# Altium integrated library TI Amplifiers and Linear Operational Amplifier Precision Amplifier Part Two.IntLib: 2300 symbols (part 28 of 81)
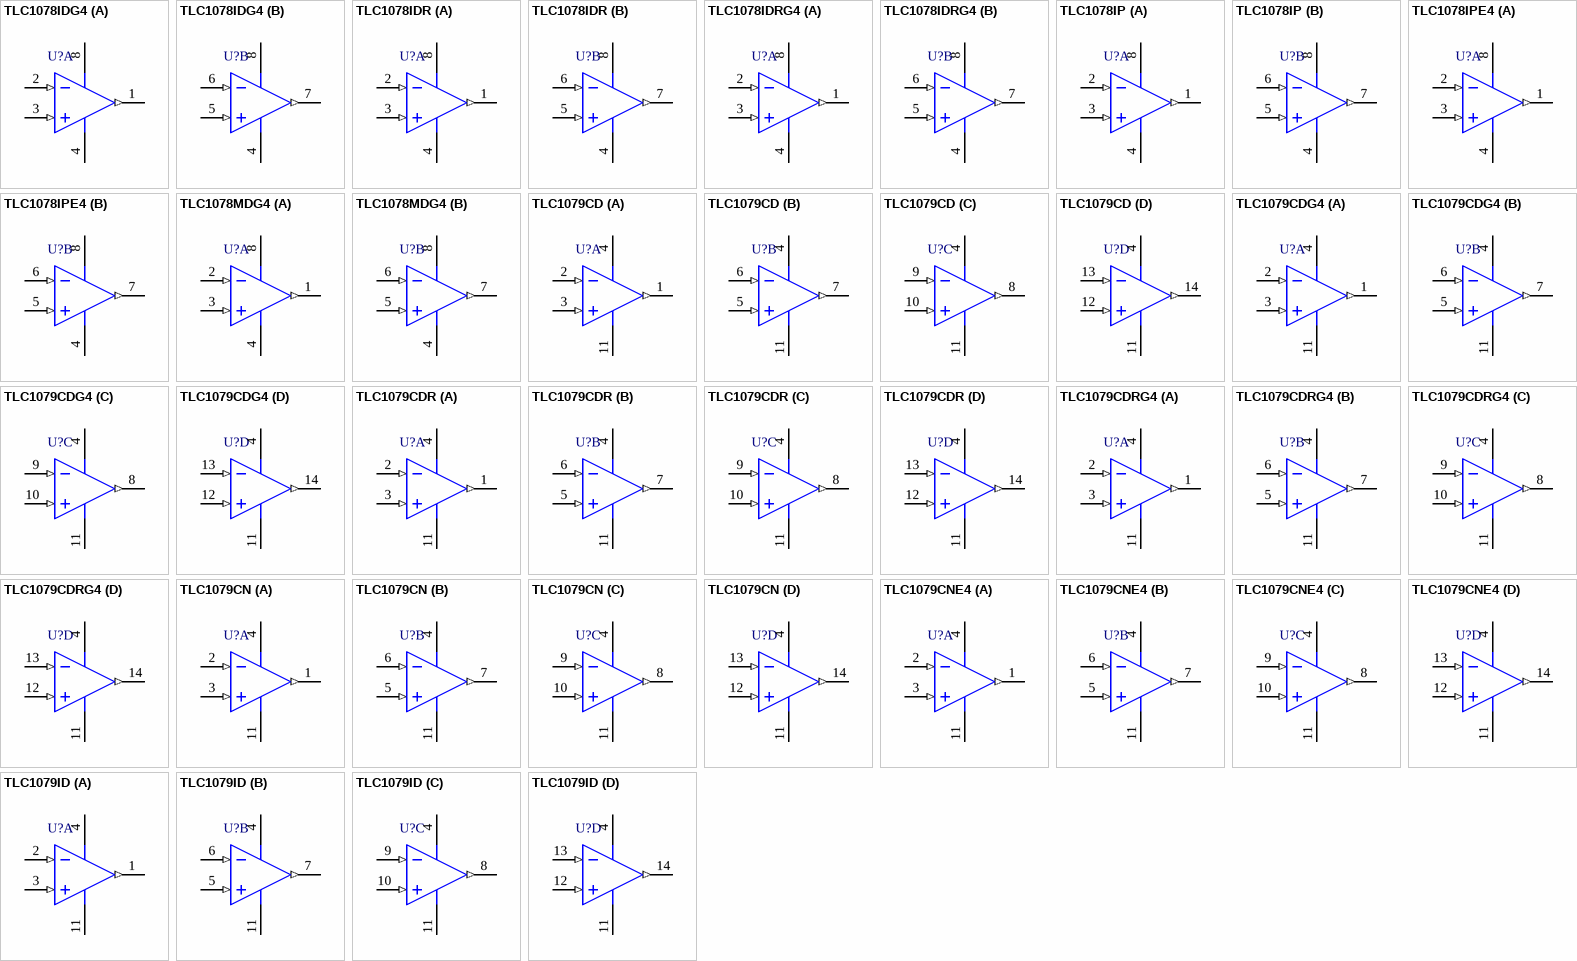
[diagram p163: symbols TLC1078IDG4 to TLC1079ID]

## TLC1078MDG4
designator U?
Dual Micropower Precision Low-Voltage Operational Amplifier, 4 to 16 V, -55 to 125 degC, 8-pin SOIC (D8), Green (RoHS & no Sb/Br); Manufacturer: Texas Instruments; PartNumber: TLC1078MDG4; CMRR(Min)(dB): 70; GBW(Typ)(MHz): 0.085; IIB(Max)(pA): 60; Iq per channel(Max)(mA): 0.017; Number of Channels: 2; Offset Drift(Typ)(uV/C): 1.4; Packing: SMALL T&R; Rating: Catalog; Slew Rate(Typ)(V/us): 32; Sub Family: Low Offset Voltage Amplifier (<=500uV), Low Power Amp (<=500uA), Low Supply Voltage Amplifier (<=2.7V), Precision Amplifier; Total Supply Voltage(Max)(+5V is 5, +/-5V is 10): 16; Total Supply Voltage(Min)(+5V is 5, +/-5V is 10): 4; Vio (25C)(Max)(mV): 0.45; DatasheetVersion: SLOS179A; PackageVersion: 4040047-3/M, 06/2011; PackageReference: D8; PackageDescription: 8-Pin Plastic Small Outline, Body 4.9 x 3.9 mm, Pitch 1.27 mm; Supplier 1: Digi-Key; Supplier Part Number 1: TLC1078MDG4-ND; Supplier 2: Mouser; Supplier Part Number 2: 595-TLC1078MDG4; Eco-Plan: Green (RoHS & no Sb/Br); Mounting Technology: Surface Mount; Code_JEDEC: MS-012; ComponentLink1Description: Manufacturer URL; ComponentLink1URL: http://www.ti.com/; ComponentLink2Description: Datasheet; ComponentLink2URL: http://www.ti.com/lit/ds/symlink/tlc1078.pdf; ComponentLink3Description: Package Specification; ComponentLink3URL: http://www.ti.com/litv/pdf/msoi002j
footprint TI-D8_N (SOIC, 8-Leads, Body 4.9x3.9mm, Pitch 1.27mm, IPC Medium Density)
footprint TI-D8_L (SOIC, 8-Leads, Body 4.9x3.9mm, Pitch 1.27mm, IPC High Density)
footprint TI-D8_M (SOIC, 8-Leads, Body 4.9x3.9mm, Pitch 1.27mm, IPC Low Density)
pins on every part: 4 GND (power), 8 VDD (power)
part A pins: 1 OUT1 (out), 2 IN1- (in), 3 IN1+ (in)
part B pins: 5 IN2+ (in), 6 IN2- (in), 7 OUT2 (out)

## TLC1079CD
designator U?
Quad Micropower Precision Low-Voltage Operational Amplifier, 1.4 to 16 V, 0 to 70 degC, 14-pin SOIC (D14), Green (RoHS & no Sb/Br); Manufacturer: Texas Instruments; PartNumber: TLC1079CD; CMRR(Min)(dB): 70; GBW(Typ)(MHz): 0.085; IIB(Max)(pA): 60; Iq per channel(Max)(mA): 0.017; Number of Channels: 4; Offset Drift(Typ)(uV/C): 1.1; Packing: TUBE; Rating: Catalog; Slew Rate(Typ)(V/us): 32; Sub Family: Low Power Amp (<=500uA), Low Supply Voltage Amplifier (<=2.7V), Precision Amplifier; Total Supply Voltage(Max)(+5V is 5, +/-5V is 10): 16; Total Supply Voltage(Min)(+5V is 5, +/-5V is 10): 1.4; Vio (25C)(Max)(mV): 0.85; DatasheetVersion: SLOS179A; PackageVersion: 4040047-5/M, 06/2011; PackageReference: D14; PackageDescription: 14-Pin Plastic Small Outline, Body 8.65 x 3.9 mm, Pitch 1.27 mm; Supplier 1: Digi-Key; Supplier Part Number 1: 296-10235-5-ND; Supplier 2: Farnell; Supplier Part Number 2: 1459737; Supplier 3: Newark; Supplier Part Number 3: 90B1096; Supplier 4: Mouser; Supplier Part Number 4: 595-TLC1079CD; Eco-Plan: Green (RoHS & no Sb/Br); Mounting Technology: Surface Mount; Code_JEDEC: MS-012; ComponentLink1Description: Manufacturer URL; ComponentLink1URL: http://www.ti.com/; ComponentLink2Description: Datasheet; ComponentLink2URL: http://www.ti.com/lit/ds/symlink/tlc1079.pdf; ComponentLink3Description: Package Specification; ComponentLink3URL: http://www.ti.com/lit/ml/mpds177g/mpds177g.pdf
footprint TI-D14_N (SOIC, 14-Leads, Body 8.65x3.9mm, Pitch 1.27mm, IPC Medium Density)
footprint TI-D14_L (SOIC, 14-Leads, Body 8.65x3.9mm, Pitch 1.27mm, IPC High Density)
footprint TI-D14_M (SOIC, 14-Leads, Body 8.65x3.9mm, Pitch 1.27mm, IPC Low Density)
pins on every part: 4 VDD (power), 11 GND (power)
part A pins: 1 OUT1 (out), 2 IN1- (in), 3 IN1+ (in)
part B pins: 5 IN2+ (in), 6 IN2- (in), 7 OUT2 (out)
part C pins: 8 OUT3 (out), 9 IN3- (in), 10 IN3+ (in)
part D pins: 12 IN4+ (in), 13 IN4- (in), 14 OUT4 (out)

## TLC1079CDG4
designator U?
Quad Micropower Precision Low-Voltage Operational Amplifier, 1.4 to 16 V, 0 to 70 degC, 14-pin SOIC (D14), Green (RoHS & no Sb/Br); Manufacturer: Texas Instruments; PartNumber: TLC1079CDG4; CMRR(Min)(dB): 70; GBW(Typ)(MHz): 0.085; IIB(Max)(pA): 60; Iq per channel(Max)(mA): 0.017; Number of Channels: 4; Offset Drift(Typ)(uV/C): 1.1; Packing: TUBE; Rating: Catalog; Slew Rate(Typ)(V/us): 32; Sub Family: Low Power Amp (<=500uA), Low Supply Voltage Amplifier (<=2.7V), Precision Amplifier; Total Supply Voltage(Max)(+5V is 5, +/-5V is 10): 16; Total Supply Voltage(Min)(+5V is 5, +/-5V is 10): 1.4; Vio (25C)(Max)(mV): 0.85; DatasheetVersion: SLOS179A; PackageVersion: 4040047-5/M, 06/2011; PackageReference: D14; PackageDescription: 14-Pin Plastic Small Outline, Body 8.65 x 3.9 mm, Pitch 1.27 mm; Supplier 1: Digi-Key; Supplier Part Number 1: TLC1079CDG4-ND; Supplier 2: Newark; Supplier Part Number 2: 28M7749; Supplier 3: Mouser; Supplier Part Number 3: 595-TLC1079CDG4; Eco-Plan: Green (RoHS & no Sb/Br); Mounting Technology: Surface Mount; Code_JEDEC: MS-012; ComponentLink1Description: Manufacturer URL; ComponentLink1URL: http://www.ti.com/; ComponentLink2Description: Datasheet; ComponentLink2URL: http://www.ti.com/lit/ds/symlink/tlc1079.pdf; ComponentLink3Description: Package Specification; ComponentLink3URL: http://www.ti.com/lit/ml/mpds177g/mpds177g.pdf
footprint TI-D14_N (SOIC, 14-Leads, Body 8.65x3.9mm, Pitch 1.27mm, IPC Medium Density)
footprint TI-D14_L (SOIC, 14-Leads, Body 8.65x3.9mm, Pitch 1.27mm, IPC High Density)
footprint TI-D14_M (SOIC, 14-Leads, Body 8.65x3.9mm, Pitch 1.27mm, IPC Low Density)
pins on every part: 4 VDD (power), 11 GND (power)
part A pins: 1 OUT1 (out), 2 IN1- (in), 3 IN1+ (in)
part B pins: 5 IN2+ (in), 6 IN2- (in), 7 OUT2 (out)
part C pins: 8 OUT3 (out), 9 IN3- (in), 10 IN3+ (in)
part D pins: 12 IN4+ (in), 13 IN4- (in), 14 OUT4 (out)

## TLC1079CDR
designator U?
Quad Micropower Precision Low-Voltage Operational Amplifier, 1.4 to 16 V, 0 to 70 degC, 14-pin SOIC (D14), Green (RoHS & no Sb/Br); Manufacturer: Texas Instruments; PartNumber: TLC1079CDR; CMRR(Min)(dB): 70; GBW(Typ)(MHz): 0.085; IIB(Max)(pA): 60; Iq per channel(Max)(mA): 0.017; Number of Channels: 4; Offset Drift(Typ)(uV/C): 1.1; Packing: LARGE T&R; Rating: Catalog; Slew Rate(Typ)(V/us): 32; Sub Family: Low Power Amp (<=500uA), Low Supply Voltage Amplifier (<=2.7V), Precision Amplifier; Total Supply Voltage(Max)(+5V is 5, +/-5V is 10): 16; Total Supply Voltage(Min)(+5V is 5, +/-5V is 10): 1.4; Vio (25C)(Max)(mV): 0.85; DatasheetVersion: SLOS179A; PackageVersion: 4040047-5/M, 06/2011; PackageReference: D14; PackageDescription: 14-Pin Plastic Small Outline, Body 8.65 x 3.9 mm, Pitch 1.27 mm; Supplier 1: Digi-Key; Supplier Part Number 1: TLC1079CDR-ND; Supplier 2: Mouser; Supplier Part Number 2: 595-TLC1079CDR; Eco-Plan: Green (RoHS & no Sb/Br); Mounting Technology: Surface Mount; Code_JEDEC: MS-012; ComponentLink1Description: Manufacturer URL; ComponentLink1URL: http://www.ti.com/; ComponentLink2Description: Datasheet; ComponentLink2URL: http://www.ti.com/lit/ds/symlink/tlc1079.pdf; ComponentLink3Description: Package Specification; ComponentLink3URL: http://www.ti.com/lit/ml/mpds177g/mpds177g.pdf
footprint TI-D14_N (SOIC, 14-Leads, Body 8.65x3.9mm, Pitch 1.27mm, IPC Medium Density)
footprint TI-D14_L (SOIC, 14-Leads, Body 8.65x3.9mm, Pitch 1.27mm, IPC High Density)
footprint TI-D14_M (SOIC, 14-Leads, Body 8.65x3.9mm, Pitch 1.27mm, IPC Low Density)
pins on every part: 4 VDD (power), 11 GND (power)
part A pins: 1 OUT1 (out), 2 IN1- (in), 3 IN1+ (in)
part B pins: 5 IN2+ (in), 6 IN2- (in), 7 OUT2 (out)
part C pins: 8 OUT3 (out), 9 IN3- (in), 10 IN3+ (in)
part D pins: 12 IN4+ (in), 13 IN4- (in), 14 OUT4 (out)

## TLC1079CDRG4
designator U?
Quad Micropower Precision Low-Voltage Operational Amplifier, 1.4 to 16 V, 0 to 70 degC, 14-pin SOIC (D14), Green (RoHS & no Sb/Br); Manufacturer: Texas Instruments; PartNumber: TLC1079CDRG4; CMRR(Min)(dB): 70; GBW(Typ)(MHz): 0.085; IIB(Max)(pA): 60; Iq per channel(Max)(mA): 0.017; Number of Channels: 4; Offset Drift(Typ)(uV/C): 1.1; Packing: LARGE T&R; Rating: Catalog; Slew Rate(Typ)(V/us): 32; Sub Family: Low Power Amp (<=500uA), Low Supply Voltage Amplifier (<=2.7V), Precision Amplifier; Total Supply Voltage(Max)(+5V is 5, +/-5V is 10): 16; Total Supply Voltage(Min)(+5V is 5, +/-5V is 10): 1.4; Vio (25C)(Max)(mV): 0.85; DatasheetVersion: SLOS179A; PackageVersion: 4040047-5/M, 06/2011; PackageReference: D14; PackageDescription: 14-Pin Plastic Small Outline, Body 8.65 x 3.9 mm, Pitch 1.27 mm; Supplier 1: Digi-Key; Supplier Part Number 1: TLC1079CDRG4-ND; Supplier 2: Mouser; Supplier Part Number 2: 595-TLC1079CDRG4; Eco-Plan: Green (RoHS & no Sb/Br); Mounting Technology: Surface Mount; Code_JEDEC: MS-012; ComponentLink1Description: Manufacturer URL; ComponentLink1URL: http://www.ti.com/; ComponentLink2Description: Datasheet; ComponentLink2URL: http://www.ti.com/lit/ds/symlink/tlc1079.pdf; ComponentLink3Description: Package Specification; ComponentLink3URL: http://www.ti.com/lit/ml/mpds177g/mpds177g.pdf
footprint TI-D14_N (SOIC, 14-Leads, Body 8.65x3.9mm, Pitch 1.27mm, IPC Medium Density)
footprint TI-D14_L (SOIC, 14-Leads, Body 8.65x3.9mm, Pitch 1.27mm, IPC High Density)
footprint TI-D14_M (SOIC, 14-Leads, Body 8.65x3.9mm, Pitch 1.27mm, IPC Low Density)
pins on every part: 4 VDD (power), 11 GND (power)
part A pins: 1 OUT1 (out), 2 IN1- (in), 3 IN1+ (in)
part B pins: 5 IN2+ (in), 6 IN2- (in), 7 OUT2 (out)
part C pins: 8 OUT3 (out), 9 IN3- (in), 10 IN3+ (in)
part D pins: 12 IN4+ (in), 13 IN4- (in), 14 OUT4 (out)

## TLC1079CN
designator U?
Quad Micropower Precision Low-Voltage Operational Amplifier, 1.4 to 16 V, 0 to 70 degC, 14-pin DIP (N14), Pb-Free (RoHS); Manufacturer: Texas Instruments; PartNumber: TLC1079CN; CMRR(Min)(dB): 70; GBW(Typ)(MHz): 0.085; IIB(Max)(pA): 60; Iq per channel(Max)(mA): 0.017; Number of Channels: 4; Offset Drift(Typ)(uV/C): 1.1; Packing: TUBE; Rating: Catalog; Slew Rate(Typ)(V/us): 32; Sub Family: Low Power Amp (<=500uA), Low Supply Voltage Amplifier (<=2.7V), Precision Amplifier; Total Supply Voltage(Max)(+5V is 5, +/-5V is 10): 16; Total Supply Voltage(Min)(+5V is 5, +/-5V is 10): 1.4; Vio (25C)(Max)(mV): 0.85; DatasheetVersion: SLOS179A; PackageVersion: 4040049/E, 12/2002; PackageReference: N14; PackageDescription: 14-Pin Plastic In-Line, Body 19.305 x 6.35 mm, Pitch 2.54 mm; Supplier 1: Digi-Key; Supplier Part Number 1: 296-10236-5-ND; Supplier 2: Newark; Supplier Part Number 2: 08F8987; Supplier 3: Mouser; Supplier Part Number 3: 595-TLC1079CN; Eco-Plan: Pb-Free (RoHS); Mounting Technology: Through Hole; Code_JEDEC: MS-001; ComponentLink1Description: Manufacturer URL; ComponentLink1URL: http://www.ti.com/; ComponentLink2Description: Datasheet; ComponentLink2URL: http://www.ti.com/lit/ds/symlink/tlc1079.pdf; ComponentLink3Description: Package Specification; ComponentLink3URL: http://www.ti.com/lit/ml/mpdi002c/mpdi002c.pdf
footprint TI-N14 (DIP, 14-Leads, Body 19.305x6.35 mm, Pitch 2.54 mm)
pins on every part: 4 VDD (power), 11 GND (power)
part A pins: 1 OUT1 (out), 2 IN1- (in), 3 IN1+ (in)
part B pins: 5 IN2+ (in), 6 IN2- (in), 7 OUT2 (out)
part C pins: 8 OUT3 (out), 9 IN3- (in), 10 IN3+ (in)
part D pins: 12 IN4+ (in), 13 IN4- (in), 14 OUT4 (out)

## TLC1079CNE4
designator U?
Quad Micropower Precision Low-Voltage Operational Amplifier, 1.4 to 16 V, 0 to 70 degC, 14-pin DIP (N14), Pb-Free (RoHS); Manufacturer: Texas Instruments; PartNumber: TLC1079CNE4; CMRR(Min)(dB): 70; GBW(Typ)(MHz): 0.085; IIB(Max)(pA): 60; Iq per channel(Max)(mA): 0.017; Number of Channels: 4; Offset Drift(Typ)(uV/C): 1.1; Packing: TUBE; Rating: Catalog; Slew Rate(Typ)(V/us): 32; Sub Family: Low Power Amp (<=500uA), Low Supply Voltage Amplifier (<=2.7V), Precision Amplifier; Total Supply Voltage(Max)(+5V is 5, +/-5V is 10): 16; Total Supply Voltage(Min)(+5V is 5, +/-5V is 10): 1.4; Vio (25C)(Max)(mV): 0.85; DatasheetVersion: SLOS179A; PackageVersion: 4040049/E, 12/2002; PackageReference: N14; PackageDescription: 14-Pin Plastic In-Line, Body 19.305 x 6.35 mm, Pitch 2.54 mm; Supplier 1: Digi-Key; Supplier Part Number 1: TLC1079CNE4-ND; Supplier 2: Newark; Supplier Part Number 2: 24K5146; Supplier 3: Mouser; Supplier Part Number 3: 595-TLC1079CNE4; Eco-Plan: Pb-Free (RoHS); Mounting Technology: Through Hole; Code_JEDEC: MS-001; ComponentLink1Description: Manufacturer URL; ComponentLink1URL: http://www.ti.com/; ComponentLink2Description: Datasheet; ComponentLink2URL: http://www.ti.com/lit/ds/symlink/tlc1079.pdf; ComponentLink3Description: Package Specification; ComponentLink3URL: http://www.ti.com/lit/ml/mpdi002c/mpdi002c.pdf
footprint TI-N14 (DIP, 14-Leads, Body 19.305x6.35 mm, Pitch 2.54 mm)
pins on every part: 4 VDD (power), 11 GND (power)
part A pins: 1 OUT1 (out), 2 IN1- (in), 3 IN1+ (in)
part B pins: 5 IN2+ (in), 6 IN2- (in), 7 OUT2 (out)
part C pins: 8 OUT3 (out), 9 IN3- (in), 10 IN3+ (in)
part D pins: 12 IN4+ (in), 13 IN4- (in), 14 OUT4 (out)

## TLC1079ID
designator U?
Quad Micropower Precision Low-Voltage Operational Amplifier, 3 to 16 V, -40 to 85 degC, 14-pin SOIC (D14), Green (RoHS & no Sb/Br); Manufacturer: Texas Instruments; PartNumber: TLC1079ID; CMRR(Min)(dB): 70; GBW(Typ)(MHz): 0.085; IIB(Max)(pA): 60; Iq per channel(Max)(mA): 0.017; Number of Channels: 4; Offset Drift(Typ)(uV/C): 1.1; Packing: TUBE; Rating: Catalog; Slew Rate(Typ)(V/us): 32; Sub Family: Low Power Amp (<=500uA), Low Supply Voltage Amplifier (<=2.7V), Precision Amplifier; Total Supply Voltage(Max)(+5V is 5, +/-5V is 10): 16; Total Supply Voltage(Min)(+5V is 5, +/-5V is 10): 3; Vio (25C)(Max)(mV): 0.85; DatasheetVersion: SLOS179A; PackageVersion: 4040047-5/M, 06/2011; PackageReference: D14; PackageDescription: 14-Pin Plastic Small Outline, Body 8.65 x 3.9 mm, Pitch 1.27 mm; Supplier 1: Digi-Key; Supplier Part Number 1: 296-10237-5-ND; Supplier 2: Mouser; Supplier Part Number 2: 595-TLC1079ID; Eco-Plan: Green (RoHS & no Sb/Br); Mounting Technology: Surface Mount; Code_JEDEC: MS-012; ComponentLink1Description: Manufacturer URL; ComponentLink1URL: http://www.ti.com/; ComponentLink2Description: Datasheet; ComponentLink2URL: http://www.ti.com/lit/ds/symlink/tlc1079.pdf; ComponentLink3Description: Package Specification; ComponentLink3URL: http://www.ti.com/lit/ml/mpds177g/mpds177g.pdf
footprint TI-D14_N (SOIC, 14-Leads, Body 8.65x3.9mm, Pitch 1.27mm, IPC Medium Density)
footprint TI-D14_L (SOIC, 14-Leads, Body 8.65x3.9mm, Pitch 1.27mm, IPC High Density)
footprint TI-D14_M (SOIC, 14-Leads, Body 8.65x3.9mm, Pitch 1.27mm, IPC Low Density)
pins on every part: 4 VDD (power), 11 GND (power)
part A pins: 1 OUT1 (out), 2 IN1- (in), 3 IN1+ (in)
part B pins: 5 IN2+ (in), 6 IN2- (in), 7 OUT2 (out)
part C pins: 8 OUT3 (out), 9 IN3- (in), 10 IN3+ (in)
part D pins: 12 IN4+ (in), 13 IN4- (in), 14 OUT4 (out)

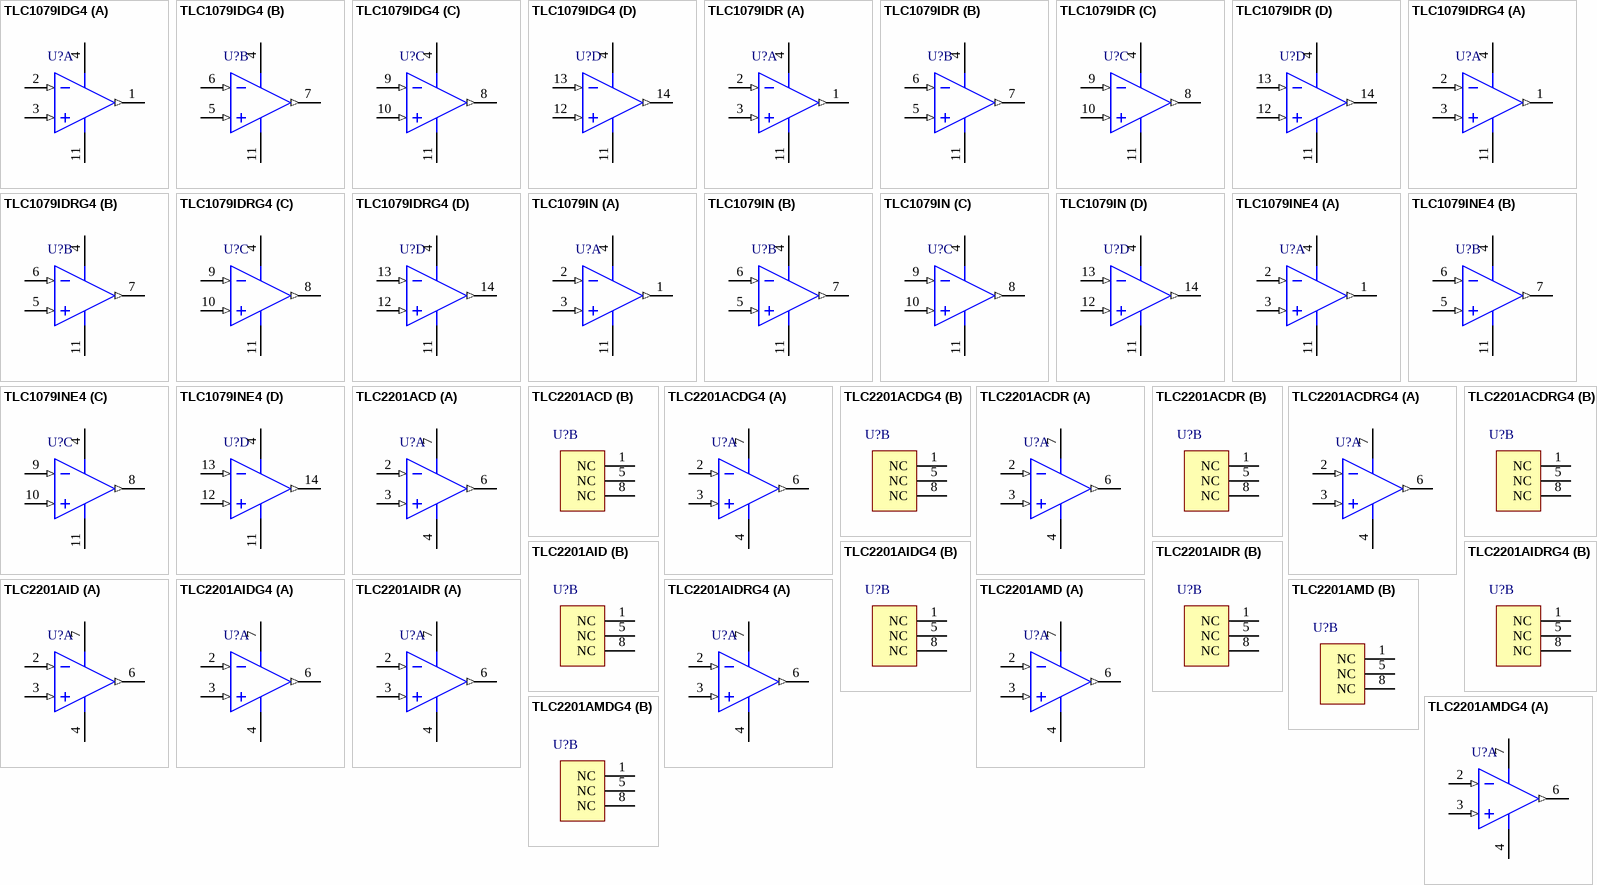
[diagram p46: symbols TLC1079IDG4 to TLC2201AMDG4]

## TLC1079IDG4
designator U?
Quad Micropower Precision Low-Voltage Operational Amplifier, 3 to 16 V, -40 to 85 degC, 14-pin SOIC (D14), Green (RoHS & no Sb/Br); Manufacturer: Texas Instruments; PartNumber: TLC1079IDG4; CMRR(Min)(dB): 70; GBW(Typ)(MHz): 0.085; IIB(Max)(pA): 60; Iq per channel(Max)(mA): 0.017; Number of Channels: 4; Offset Drift(Typ)(uV/C): 1.1; Packing: TUBE; Rating: Catalog; Slew Rate(Typ)(V/us): 32; Sub Family: Low Power Amp (<=500uA), Low Supply Voltage Amplifier (<=2.7V), Precision Amplifier; Total Supply Voltage(Max)(+5V is 5, +/-5V is 10): 16; Total Supply Voltage(Min)(+5V is 5, +/-5V is 10): 3; Vio (25C)(Max)(mV): 0.85; DatasheetVersion: SLOS179A; PackageVersion: 4040047-5/M, 06/2011; PackageReference: D14; PackageDescription: 14-Pin Plastic Small Outline, Body 8.65 x 3.9 mm, Pitch 1.27 mm; Supplier 1: Digi-Key; Supplier Part Number 1: TLC1079IDG4-ND; Supplier 2: Mouser; Supplier Part Number 2: 595-TLC1079IDG4; Eco-Plan: Green (RoHS & no Sb/Br); Mounting Technology: Surface Mount; Code_JEDEC: MS-012; ComponentLink1Description: Manufacturer URL; ComponentLink1URL: http://www.ti.com/; ComponentLink2Description: Datasheet; ComponentLink2URL: http://www.ti.com/lit/ds/symlink/tlc1079.pdf; ComponentLink3Description: Package Specification; ComponentLink3URL: http://www.ti.com/lit/ml/mpds177g/mpds177g.pdf
footprint TI-D14_N (SOIC, 14-Leads, Body 8.65x3.9mm, Pitch 1.27mm, IPC Medium Density)
footprint TI-D14_L (SOIC, 14-Leads, Body 8.65x3.9mm, Pitch 1.27mm, IPC High Density)
footprint TI-D14_M (SOIC, 14-Leads, Body 8.65x3.9mm, Pitch 1.27mm, IPC Low Density)
pins on every part: 4 VDD (power), 11 GND (power)
part A pins: 1 OUT1 (out), 2 IN1- (in), 3 IN1+ (in)
part B pins: 5 IN2+ (in), 6 IN2- (in), 7 OUT2 (out)
part C pins: 8 OUT3 (out), 9 IN3- (in), 10 IN3+ (in)
part D pins: 12 IN4+ (in), 13 IN4- (in), 14 OUT4 (out)

## TLC1079IDR
designator U?
Quad Micropower Precision Low-Voltage Operational Amplifier, 3 to 16 V, -40 to 85 degC, 14-pin SOIC (D14), Green (RoHS & no Sb/Br); Manufacturer: Texas Instruments; PartNumber: TLC1079IDR; CMRR(Min)(dB): 70; GBW(Typ)(MHz): 0.085; IIB(Max)(pA): 60; Iq per channel(Max)(mA): 0.017; Number of Channels: 4; Offset Drift(Typ)(uV/C): 1.1; Packing: LARGE T&R; Rating: Catalog; Slew Rate(Typ)(V/us): 32; Sub Family: Low Power Amp (<=500uA), Low Supply Voltage Amplifier (<=2.7V), Precision Amplifier; Total Supply Voltage(Max)(+5V is 5, +/-5V is 10): 16; Total Supply Voltage(Min)(+5V is 5, +/-5V is 10): 3; Vio (25C)(Max)(mV): 0.85; DatasheetVersion: SLOS179A; PackageVersion: 4040047-5/M, 06/2011; PackageReference: D14; PackageDescription: 14-Pin Plastic Small Outline, Body 8.65 x 3.9 mm, Pitch 1.27 mm; Supplier 1: Digi-Key; Supplier Part Number 1: TLC1079IDR-ND; Supplier 2: Mouser; Supplier Part Number 2: 595-TLC1079IDR; Eco-Plan: Green (RoHS & no Sb/Br); Mounting Technology: Surface Mount; Code_JEDEC: MS-012; ComponentLink1Description: Manufacturer URL; ComponentLink1URL: http://www.ti.com/; ComponentLink2Description: Datasheet; ComponentLink2URL: http://www.ti.com/lit/ds/symlink/tlc1079.pdf; ComponentLink3Description: Package Specification; ComponentLink3URL: http://www.ti.com/lit/ml/mpds177g/mpds177g.pdf
footprint TI-D14_N (SOIC, 14-Leads, Body 8.65x3.9mm, Pitch 1.27mm, IPC Medium Density)
footprint TI-D14_L (SOIC, 14-Leads, Body 8.65x3.9mm, Pitch 1.27mm, IPC High Density)
footprint TI-D14_M (SOIC, 14-Leads, Body 8.65x3.9mm, Pitch 1.27mm, IPC Low Density)
pins on every part: 4 VDD (power), 11 GND (power)
part A pins: 1 OUT1 (out), 2 IN1- (in), 3 IN1+ (in)
part B pins: 5 IN2+ (in), 6 IN2- (in), 7 OUT2 (out)
part C pins: 8 OUT3 (out), 9 IN3- (in), 10 IN3+ (in)
part D pins: 12 IN4+ (in), 13 IN4- (in), 14 OUT4 (out)

## TLC1079IDRG4
designator U?
Quad Micropower Precision Low-Voltage Operational Amplifier, 3 to 16 V, -40 to 85 degC, 14-pin SOIC (D14), Green (RoHS & no Sb/Br); Manufacturer: Texas Instruments; PartNumber: TLC1079IDRG4; CMRR(Min)(dB): 70; GBW(Typ)(MHz): 0.085; IIB(Max)(pA): 60; Iq per channel(Max)(mA): 0.017; Number of Channels: 4; Offset Drift(Typ)(uV/C): 1.1; Packing: LARGE T&R; Rating: Catalog; Slew Rate(Typ)(V/us): 32; Sub Family: Low Power Amp (<=500uA), Low Supply Voltage Amplifier (<=2.7V), Precision Amplifier; Total Supply Voltage(Max)(+5V is 5, +/-5V is 10): 16; Total Supply Voltage(Min)(+5V is 5, +/-5V is 10): 3; Vio (25C)(Max)(mV): 0.85; DatasheetVersion: SLOS179A; PackageVersion: 4040047-5/M, 06/2011; PackageReference: D14; PackageDescription: 14-Pin Plastic Small Outline, Body 8.65 x 3.9 mm, Pitch 1.27 mm; Supplier 1: Digi-Key; Supplier Part Number 1: TLC1079IDRG4-ND; Supplier 2: Mouser; Supplier Part Number 2: 595-TLC1079IDRG4; Eco-Plan: Green (RoHS & no Sb/Br); Mounting Technology: Surface Mount; Code_JEDEC: MS-012; ComponentLink1Description: Manufacturer URL; ComponentLink1URL: http://www.ti.com/; ComponentLink2Description: Datasheet; ComponentLink2URL: http://www.ti.com/lit/ds/symlink/tlc1079.pdf; ComponentLink3Description: Package Specification; ComponentLink3URL: http://www.ti.com/lit/ml/mpds177g/mpds177g.pdf
footprint TI-D14_N (SOIC, 14-Leads, Body 8.65x3.9mm, Pitch 1.27mm, IPC Medium Density)
footprint TI-D14_L (SOIC, 14-Leads, Body 8.65x3.9mm, Pitch 1.27mm, IPC High Density)
footprint TI-D14_M (SOIC, 14-Leads, Body 8.65x3.9mm, Pitch 1.27mm, IPC Low Density)
pins on every part: 4 VDD (power), 11 GND (power)
part A pins: 1 OUT1 (out), 2 IN1- (in), 3 IN1+ (in)
part B pins: 5 IN2+ (in), 6 IN2- (in), 7 OUT2 (out)
part C pins: 8 OUT3 (out), 9 IN3- (in), 10 IN3+ (in)
part D pins: 12 IN4+ (in), 13 IN4- (in), 14 OUT4 (out)

## TLC1079IN
designator U?
Quad Micropower Precision Low-Voltage Operational Amplifier, 3 to 16 V, -40 to 85 degC, 14-pin DIP (N14), Pb-Free (RoHS); Manufacturer: Texas Instruments; PartNumber: TLC1079IN; CMRR(Min)(dB): 70; GBW(Typ)(MHz): 0.085; IIB(Max)(pA): 60; Iq per channel(Max)(mA): 0.017; Number of Channels: 4; Offset Drift(Typ)(uV/C): 1.1; Packing: TUBE; Rating: Catalog; Slew Rate(Typ)(V/us): 32; Sub Family: Low Power Amp (<=500uA), Low Supply Voltage Amplifier (<=2.7V), Precision Amplifier; Total Supply Voltage(Max)(+5V is 5, +/-5V is 10): 16; Total Supply Voltage(Min)(+5V is 5, +/-5V is 10): 3; Vio (25C)(Max)(mV): 0.85; DatasheetVersion: SLOS179A; PackageVersion: 4040049/E, 12/2002; PackageReference: N14; PackageDescription: 14-Pin Plastic In-Line, Body 19.305 x 6.35 mm, Pitch 2.54 mm; Supplier 1: Digi-Key; Supplier Part Number 1: 296-10238-5-ND; Supplier 2: Newark; Supplier Part Number 2: 90B1115; Supplier 3: Mouser; Supplier Part Number 3: 595-TLC1079IN; Eco-Plan: Pb-Free (RoHS); Mounting Technology: Through Hole; Code_JEDEC: MS-001; ComponentLink1Description: Manufacturer URL; ComponentLink1URL: http://www.ti.com/; ComponentLink2Description: Datasheet; ComponentLink2URL: http://www.ti.com/lit/ds/symlink/tlc1079.pdf; ComponentLink3Description: Package Specification; ComponentLink3URL: http://www.ti.com/lit/ml/mpdi002c/mpdi002c.pdf
footprint TI-N14 (DIP, 14-Leads, Body 19.305x6.35 mm, Pitch 2.54 mm)
pins on every part: 4 VDD (power), 11 GND (power)
part A pins: 1 OUT1 (out), 2 IN1- (in), 3 IN1+ (in)
part B pins: 5 IN2+ (in), 6 IN2- (in), 7 OUT2 (out)
part C pins: 8 OUT3 (out), 9 IN3- (in), 10 IN3+ (in)
part D pins: 12 IN4+ (in), 13 IN4- (in), 14 OUT4 (out)

## TLC1079INE4
designator U?
Quad Micropower Precision Low-Voltage Operational Amplifier, 3 to 16 V, -40 to 85 degC, 14-pin DIP (N14), Pb-Free (RoHS); Manufacturer: Texas Instruments; PartNumber: TLC1079INE4; CMRR(Min)(dB): 70; GBW(Typ)(MHz): 0.085; IIB(Max)(pA): 60; Iq per channel(Max)(mA): 0.017; Number of Channels: 4; Offset Drift(Typ)(uV/C): 1.1; Packing: TUBE; Rating: Catalog; Slew Rate(Typ)(V/us): 32; Sub Family: Low Power Amp (<=500uA), Low Supply Voltage Amplifier (<=2.7V), Precision Amplifier; Total Supply Voltage(Max)(+5V is 5, +/-5V is 10): 16; Total Supply Voltage(Min)(+5V is 5, +/-5V is 10): 3; Vio (25C)(Max)(mV): 0.85; DatasheetVersion: SLOS179A; PackageVersion: 4040049/E, 12/2002; PackageReference: N14; PackageDescription: 14-Pin Plastic In-Line, Body 19.305 x 6.35 mm, Pitch 2.54 mm; Supplier 1: Digi-Key; Supplier Part Number 1: TLC1079INE4-ND; Supplier 2: Newark; Supplier Part Number 2: 24K5147; Supplier 3: Mouser; Supplier Part Number 3: 595-TLC1079INE4; Eco-Plan: Pb-Free (RoHS); Mounting Technology: Through Hole; Code_JEDEC: MS-001; ComponentLink1Description: Manufacturer URL; ComponentLink1URL: http://www.ti.com/; ComponentLink2Description: Datasheet; ComponentLink2URL: http://www.ti.com/lit/ds/symlink/tlc1079.pdf; ComponentLink3Description: Package Specification; ComponentLink3URL: http://www.ti.com/lit/ml/mpdi002c/mpdi002c.pdf
footprint TI-N14 (DIP, 14-Leads, Body 19.305x6.35 mm, Pitch 2.54 mm)
pins on every part: 4 VDD (power), 11 GND (power)
part A pins: 1 OUT1 (out), 2 IN1- (in), 3 IN1+ (in)
part B pins: 5 IN2+ (in), 6 IN2- (in), 7 OUT2 (out)
part C pins: 8 OUT3 (out), 9 IN3- (in), 10 IN3+ (in)
part D pins: 12 IN4+ (in), 13 IN4- (in), 14 OUT4 (out)

## TLC2201ACD
designator U?
Advanced LinCMOS(TM) Low-Noise Precision Operational Amplifier, 4.6 to 16 V, 0 to 70 degC, 8-pin SOIC (D8), Green (RoHS & no Sb/Br); Manufacturer: Texas Instruments; PartNumber: TLC2201ACD; CMRR(Min)(dB): 90; GBW(Typ)(MHz): 1.9; IIB(Max)(pA): 60; Iq per channel(Max)(mA): 1.5; Number of Channels: 1; Offset Drift(Typ)(uV/C): 0.5; Packing: TUBE; Rating: Catalog; Slew Rate(Typ)(V/us): 2.7; Sub Family: Low Offset Voltage Amplifier (<=60uV), Precision Amplifier; Total Supply Voltage(Max)(+5V is 5, +/-5V is 10): 16; Total Supply Voltage(Min)(+5V is 5, +/-5V is 10): 4.6; Vio (25C)(Max)(mV): 0.2; DatasheetVersion: SLOS175B; PackageVersion: 4040047-3/M, 06/2011; PackageReference: D8; PackageDescription: 8-Pin Plastic Small Outline, Body 4.9 x 3.9 mm, Pitch 1.27 mm; Supplier 1: Digi-Key; Supplier Part Number 1: 296-7050-5-ND; Supplier 2: Farnell; Supplier Part Number 2: 8453780; Supplier 3: Newark; Supplier Part Number 3: 38K8325; Supplier 4: Newark; Supplier Part Number 4: 08F9004; Supplier 5: Mouser; Supplier Part Number 5: 595-TLC2201ACD; Eco-Plan: Green (RoHS & no Sb/Br); Mounting Technology: Surface Mount; Code_JEDEC: MS-012; ComponentLink1Description: Manufacturer URL; ComponentLink1URL: http://www.ti.com/; ComponentLink2Description: Datasheet; ComponentLink2URL: http://www.ti.com/lit/ds/symlink/tlc2201am.pdf; ComponentLink3Description: Package Specification; ComponentLink3URL: http://www.ti.com/litv/pdf/msoi002j
footprint TI-D8_N (SOIC, 8-Leads, Body 4.9x3.9mm, Pitch 1.27mm, IPC Medium Density)
footprint TI-D8_L (SOIC, 8-Leads, Body 4.9x3.9mm, Pitch 1.27mm, IPC High Density)
footprint TI-D8_M (SOIC, 8-Leads, Body 4.9x3.9mm, Pitch 1.27mm, IPC Low Density)
part A pins: 2 IN- (in), 3 IN+ (in), 4 VDD-/GND (power), 6 OUT (out), 7 VDD+ (power)
part B pins: 1 NC, 5 NC, 8 NC

## TLC2201ACDG4
designator U?
Advanced LinCMOS(TM) Low-Noise Precision Operational Amplifier, 4.6 to 16 V, 0 to 70 degC, 8-pin SOIC (D8), Green (RoHS & no Sb/Br); Manufacturer: Texas Instruments; PartNumber: TLC2201ACDG4; CMRR(Min)(dB): 90; GBW(Typ)(MHz): 1.9; IIB(Max)(pA): 60; Iq per channel(Max)(mA): 1.5; Number of Channels: 1; Offset Drift(Typ)(uV/C): 0.5; Packing: TUBE; Rating: Catalog; Slew Rate(Typ)(V/us): 2.7; Sub Family: Low Offset Voltage Amplifier (<=60uV), Precision Amplifier; Total Supply Voltage(Max)(+5V is 5, +/-5V is 10): 16; Total Supply Voltage(Min)(+5V is 5, +/-5V is 10): 4.6; Vio (25C)(Max)(mV): 0.2; DatasheetVersion: SLOS175B; PackageVersion: 4040047-3/M, 06/2011; PackageReference: D8; PackageDescription: 8-Pin Plastic Small Outline, Body 4.9 x 3.9 mm, Pitch 1.27 mm; Supplier 1: Digi-Key; Supplier Part Number 1: TLC2201ACDG4-ND; Supplier 2: Mouser; Supplier Part Number 2: 595-TLC2201ACDG4; Eco-Plan: Green (RoHS & no Sb/Br); Mounting Technology: Surface Mount; Code_JEDEC: MS-012; ComponentLink1Description: Manufacturer URL; ComponentLink1URL: http://www.ti.com/; ComponentLink2Description: Datasheet; ComponentLink2URL: http://www.ti.com/lit/ds/symlink/tlc2201am.pdf; ComponentLink3Description: Package Specification; ComponentLink3URL: http://www.ti.com/litv/pdf/msoi002j
footprint TI-D8_N (SOIC, 8-Leads, Body 4.9x3.9mm, Pitch 1.27mm, IPC Medium Density)
footprint TI-D8_L (SOIC, 8-Leads, Body 4.9x3.9mm, Pitch 1.27mm, IPC High Density)
footprint TI-D8_M (SOIC, 8-Leads, Body 4.9x3.9mm, Pitch 1.27mm, IPC Low Density)
part A pins: 2 IN- (in), 3 IN+ (in), 4 VDD-/GND (power), 6 OUT (out), 7 VDD+ (power)
part B pins: 1 NC, 5 NC, 8 NC

## TLC2201ACDR
designator U?
Advanced LinCMOS(TM) Low-Noise Precision Operational Amplifier, 4.6 to 16 V, 0 to 70 degC, 8-pin SOIC (D8), Green (RoHS & no Sb/Br); Manufacturer: Texas Instruments; PartNumber: TLC2201ACDR; CMRR(Min)(dB): 90; GBW(Typ)(MHz): 1.9; IIB(Max)(pA): 60; Iq per channel(Max)(mA): 1.5; Number of Channels: 1; Offset Drift(Typ)(uV/C): 0.5; Packing: LARGE T&R; Rating: Catalog; Slew Rate(Typ)(V/us): 2.7; Sub Family: Low Offset Voltage Amplifier (<=60uV), Precision Amplifier; Total Supply Voltage(Max)(+5V is 5, +/-5V is 10): 16; Total Supply Voltage(Min)(+5V is 5, +/-5V is 10): 4.6; Vio (25C)(Max)(mV): 0.2; DatasheetVersion: SLOS175B; PackageVersion: 4040047-3/M, 06/2011; PackageReference: D8; PackageDescription: 8-Pin Plastic Small Outline, Body 4.9 x 3.9 mm, Pitch 1.27 mm; Supplier 1: Digi-Key; Supplier Part Number 1: TLC2201ACDR-ND; Supplier 2: Newark; Supplier Part Number 2: 76C6829; Supplier 3: Mouser; Supplier Part Number 3: 595-TLC2201ACDR; Eco-Plan: Green (RoHS & no Sb/Br); Mounting Technology: Surface Mount; Code_JEDEC: MS-012; ComponentLink1Description: Manufacturer URL; ComponentLink1URL: http://www.ti.com/; ComponentLink2Description: Datasheet; ComponentLink2URL: http://www.ti.com/lit/ds/symlink/tlc2201am.pdf; ComponentLink3Description: Package Specification; ComponentLink3URL: http://www.ti.com/litv/pdf/msoi002j
footprint TI-D8_N (SOIC, 8-Leads, Body 4.9x3.9mm, Pitch 1.27mm, IPC Medium Density)
footprint TI-D8_L (SOIC, 8-Leads, Body 4.9x3.9mm, Pitch 1.27mm, IPC High Density)
footprint TI-D8_M (SOIC, 8-Leads, Body 4.9x3.9mm, Pitch 1.27mm, IPC Low Density)
part A pins: 2 IN- (in), 3 IN+ (in), 4 VDD-/GND (power), 6 OUT (out), 7 VDD+ (power)
part B pins: 1 NC, 5 NC, 8 NC

## TLC2201ACDRG4
designator U?
Advanced LinCMOS(TM) Low-Noise Precision Operational Amplifier, 4.6 to 16 V, 0 to 70 degC, 8-pin SOIC (D8), Green (RoHS & no Sb/Br); Manufacturer: Texas Instruments; PartNumber: TLC2201ACDRG4; CMRR(Min)(dB): 90; GBW(Typ)(MHz): 1.9; IIB(Max)(pA): 60; Iq per channel(Max)(mA): 1.5; Number of Channels: 1; Offset Drift(Typ)(uV/C): 0.5; Packing: LARGE T&R; Rating: Catalog; Slew Rate(Typ)(V/us): 2.7; Sub Family: Low Offset Voltage Amplifier (<=60uV), Precision Amplifier; Total Supply Voltage(Max)(+5V is 5, +/-5V is 10): 16; Total Supply Voltage(Min)(+5V is 5, +/-5V is 10): 4.6; Vio (25C)(Max)(mV): 0.2; DatasheetVersion: SLOS175B; PackageVersion: 4040047-3/M, 06/2011; PackageReference: D8; PackageDescription: 8-Pin Plastic Small Outline, Body 4.9 x 3.9 mm, Pitch 1.27 mm; Supplier 1: Digi-Key; Supplier Part Number 1: TLC2201ACDRG4-ND; Supplier 2: Mouser; Supplier Part Number 2: 595-TLC2201ACDRG4; Eco-Plan: Green (RoHS & no Sb/Br); Mounting Technology: Surface Mount; Code_JEDEC: MS-012; ComponentLink1Description: Manufacturer URL; ComponentLink1URL: http://www.ti.com/; ComponentLink2Description: Datasheet; ComponentLink2URL: http://www.ti.com/lit/ds/symlink/tlc2201am.pdf; ComponentLink3Description: Package Specification; ComponentLink3URL: http://www.ti.com/litv/pdf/msoi002j
footprint TI-D8_N (SOIC, 8-Leads, Body 4.9x3.9mm, Pitch 1.27mm, IPC Medium Density)
footprint TI-D8_L (SOIC, 8-Leads, Body 4.9x3.9mm, Pitch 1.27mm, IPC High Density)
footprint TI-D8_M (SOIC, 8-Leads, Body 4.9x3.9mm, Pitch 1.27mm, IPC Low Density)
part A pins: 2 IN- (in), 3 IN+ (in), 4 VDD-/GND (power), 6 OUT (out), 7 VDD+ (power)
part B pins: 1 NC, 5 NC, 8 NC

## TLC2201AID
designator U?
Advanced LinCMOS(TM) Low-Noise Precision Operational Amplifier, 4.6 to 16 V, -40 to 85 degC, 8-pin SOIC (D8), Green (RoHS & no Sb/Br); Manufacturer: Texas Instruments; PartNumber: TLC2201AID; CMRR(Min)(dB): 90; GBW(Typ)(MHz): 1.9; IIB(Max)(pA): 60; Iq per channel(Max)(mA): 1.5; Number of Channels: 1; Offset Drift(Typ)(uV/C): 0.5; Packing: TUBE; Rating: Catalog; Slew Rate(Typ)(V/us): 2.7; Sub Family: Low Offset Voltage Amplifier (<=60uV), Precision Amplifier; Total Supply Voltage(Max)(+5V is 5, +/-5V is 10): 16; Total Supply Voltage(Min)(+5V is 5, +/-5V is 10): 4.6; Vio (25C)(Max)(mV): 0.2; DatasheetVersion: SLOS175B; PackageVersion: 4040047-3/M, 06/2011; PackageReference: D8; PackageDescription: 8-Pin Plastic Small Outline, Body 4.9 x 3.9 mm, Pitch 1.27 mm; Supplier 1: Digi-Key; Supplier Part Number 1: 296-7052-5-ND; Supplier 2: Farnell; Supplier Part Number 2: 1625548; Supplier 3: Newark; Supplier Part Number 3: 66F3396; Supplier 4: Mouser; Supplier Part Number 4: 595-TLC2201AID; Eco-Plan: Green (RoHS & no Sb/Br); Mounting Technology: Surface Mount; Code_JEDEC: MS-012; ComponentLink1Description: Manufacturer URL; ComponentLink1URL: http://www.ti.com/; ComponentLink2Description: Datasheet; ComponentLink2URL: http://www.ti.com/lit/ds/symlink/tlc2201am.pdf; ComponentLink3Description: Package Specification; ComponentLink3URL: http://www.ti.com/litv/pdf/msoi002j
footprint TI-D8_N (SOIC, 8-Leads, Body 4.9x3.9mm, Pitch 1.27mm, IPC Medium Density)
footprint TI-D8_L (SOIC, 8-Leads, Body 4.9x3.9mm, Pitch 1.27mm, IPC High Density)
footprint TI-D8_M (SOIC, 8-Leads, Body 4.9x3.9mm, Pitch 1.27mm, IPC Low Density)
part A pins: 2 IN- (in), 3 IN+ (in), 4 VDD-/GND (power), 6 OUT (out), 7 VDD+ (power)
part B pins: 1 NC, 5 NC, 8 NC

## TLC2201AIDG4
designator U?
Advanced LinCMOS(TM) Low-Noise Precision Operational Amplifier, 4.6 to 16 V, -40 to 85 degC, 8-pin SOIC (D8), Green (RoHS & no Sb/Br); Manufacturer: Texas Instruments; PartNumber: TLC2201AIDG4; CMRR(Min)(dB): 90; GBW(Typ)(MHz): 1.9; IIB(Max)(pA): 60; Iq per channel(Max)(mA): 1.5; Number of Channels: 1; Offset Drift(Typ)(uV/C): 0.5; Packing: TUBE; Rating: Catalog; Slew Rate(Typ)(V/us): 2.7; Sub Family: Low Offset Voltage Amplifier (<=60uV), Precision Amplifier; Total Supply Voltage(Max)(+5V is 5, +/-5V is 10): 16; Total Supply Voltage(Min)(+5V is 5, +/-5V is 10): 4.6; Vio (25C)(Max)(mV): 0.2; DatasheetVersion: SLOS175B; PackageVersion: 4040047-3/M, 06/2011; PackageReference: D8; PackageDescription: 8-Pin Plastic Small Outline, Body 4.9 x 3.9 mm, Pitch 1.27 mm; Supplier 1: Digi-Key; Supplier Part Number 1: TLC2201AIDG4-ND; Supplier 2: Farnell; Supplier Part Number 2: 1234787; Supplier 3: Newark; Supplier Part Number 3: 13M3129; Supplier 4: Newark; Supplier Part Number 4: 54K0839; Supplier 5: Mouser; Supplier Part Number 5: 595-TLC2201AIDG4; Eco-Plan: Green (RoHS & no Sb/Br); Mounting Technology: Surface Mount; Code_JEDEC: MS-012; ComponentLink1Description: Manufacturer URL; ComponentLink1URL: http://www.ti.com/; ComponentLink2Description: Datasheet; ComponentLink2URL: http://www.ti.com/lit/ds/symlink/tlc2201am.pdf; ComponentLink3Description: Package Specification; ComponentLink3URL: http://www.ti.com/litv/pdf/msoi002j
footprint TI-D8_N (SOIC, 8-Leads, Body 4.9x3.9mm, Pitch 1.27mm, IPC Medium Density)
footprint TI-D8_L (SOIC, 8-Leads, Body 4.9x3.9mm, Pitch 1.27mm, IPC High Density)
footprint TI-D8_M (SOIC, 8-Leads, Body 4.9x3.9mm, Pitch 1.27mm, IPC Low Density)
part A pins: 2 IN- (in), 3 IN+ (in), 4 VDD-/GND (power), 6 OUT (out), 7 VDD+ (power)
part B pins: 1 NC, 5 NC, 8 NC

## TLC2201AIDR
designator U?
Advanced LinCMOS(TM) Low-Noise Precision Operational Amplifier, 4.6 to 16 V, -40 to 85 degC, 8-pin SOIC (D8), Green (RoHS & no Sb/Br); Manufacturer: Texas Instruments; PartNumber: TLC2201AIDR; CMRR(Min)(dB): 90; GBW(Typ)(MHz): 1.9; IIB(Max)(pA): 60; Iq per channel(Max)(mA): 1.5; Number of Channels: 1; Offset Drift(Typ)(uV/C): 0.5; Packing: LARGE T&R; Rating: Catalog; Slew Rate(Typ)(V/us): 2.7; Sub Family: Low Offset Voltage Amplifier (<=60uV), Precision Amplifier; Total Supply Voltage(Max)(+5V is 5, +/-5V is 10): 16; Total Supply Voltage(Min)(+5V is 5, +/-5V is 10): 4.6; Vio (25C)(Max)(mV): 0.2; DatasheetVersion: SLOS175B; PackageVersion: 4040047-3/M, 06/2011; PackageReference: D8; PackageDescription: 8-Pin Plastic Small Outline, Body 4.9 x 3.9 mm, Pitch 1.27 mm; Supplier 1: Digi-Key; Supplier Part Number 1: TLC2201AIDR-ND; Supplier 2: Mouser; Supplier Part Number 2: 595-TLC2201AIDR; Eco-Plan: Green (RoHS & no Sb/Br); Mounting Technology: Surface Mount; Code_JEDEC: MS-012; ComponentLink1Description: Manufacturer URL; ComponentLink1URL: http://www.ti.com/; ComponentLink2Description: Datasheet; ComponentLink2URL: http://www.ti.com/lit/ds/symlink/tlc2201am.pdf; ComponentLink3Description: Package Specification; ComponentLink3URL: http://www.ti.com/litv/pdf/msoi002j
footprint TI-D8_N (SOIC, 8-Leads, Body 4.9x3.9mm, Pitch 1.27mm, IPC Medium Density)
footprint TI-D8_L (SOIC, 8-Leads, Body 4.9x3.9mm, Pitch 1.27mm, IPC High Density)
footprint TI-D8_M (SOIC, 8-Leads, Body 4.9x3.9mm, Pitch 1.27mm, IPC Low Density)
part A pins: 2 IN- (in), 3 IN+ (in), 4 VDD-/GND (power), 6 OUT (out), 7 VDD+ (power)
part B pins: 1 NC, 5 NC, 8 NC

## TLC2201AIDRG4
designator U?
Advanced LinCMOS(TM) Low-Noise Precision Operational Amplifier, 4.6 to 16 V, -40 to 85 degC, 8-pin SOIC (D8), Green (RoHS & no Sb/Br); Manufacturer: Texas Instruments; PartNumber: TLC2201AIDRG4; CMRR(Min)(dB): 90; GBW(Typ)(MHz): 1.9; IIB(Max)(pA): 60; Iq per channel(Max)(mA): 1.5; Number of Channels: 1; Offset Drift(Typ)(uV/C): 0.5; Packing: LARGE T&R; Rating: Catalog; Slew Rate(Typ)(V/us): 2.7; Sub Family: Low Offset Voltage Amplifier (<=60uV), Precision Amplifier; Total Supply Voltage(Max)(+5V is 5, +/-5V is 10): 16; Total Supply Voltage(Min)(+5V is 5, +/-5V is 10): 4.6; Vio (25C)(Max)(mV): 0.2; DatasheetVersion: SLOS175B; PackageVersion: 4040047-3/M, 06/2011; PackageReference: D8; PackageDescription: 8-Pin Plastic Small Outline, Body 4.9 x 3.9 mm, Pitch 1.27 mm; Supplier 1: Digi-Key; Supplier Part Number 1: TLC2201AIDRG4-ND; Supplier 2: Mouser; Supplier Part Number 2: 595-TLC2201AIDRG4; Eco-Plan: Green (RoHS & no Sb/Br); Mounting Technology: Surface Mount; Code_JEDEC: MS-012; ComponentLink1Description: Manufacturer URL; ComponentLink1URL: http://www.ti.com/; ComponentLink2Description: Datasheet; ComponentLink2URL: http://www.ti.com/lit/ds/symlink/tlc2201am.pdf; ComponentLink3Description: Package Specification; ComponentLink3URL: http://www.ti.com/litv/pdf/msoi002j
footprint TI-D8_N (SOIC, 8-Leads, Body 4.9x3.9mm, Pitch 1.27mm, IPC Medium Density)
footprint TI-D8_L (SOIC, 8-Leads, Body 4.9x3.9mm, Pitch 1.27mm, IPC High Density)
footprint TI-D8_M (SOIC, 8-Leads, Body 4.9x3.9mm, Pitch 1.27mm, IPC Low Density)
part A pins: 2 IN- (in), 3 IN+ (in), 4 VDD-/GND (power), 6 OUT (out), 7 VDD+ (power)
part B pins: 1 NC, 5 NC, 8 NC

## TLC2201AMD
designator U?
Low Noise Precision Advanced LinCMOS(TM) Single Operational Amplifier, 4.6 to 16 V, -55 to 125 degC, 8-pin SOIC (D8), Green (RoHS & no Sb/Br); Manufacturer: Texas Instruments; PartNumber: TLC2201AMD; CMRR(Min)(dB): 90; GBW(Typ)(MHz): 1.9; IIB(Max)(pA): 60; Iq per channel(Max)(mA): 1.5; Number of Channels: 1; Offset Drift(Typ)(uV/C): 0.5; Packing: SMALL T&R; Rating: Military; Slew Rate(Typ)(V/us): 2.7; Sub Family: Low Offset Voltage Amplifier (<=60uV), Precision Amplifier; Total Supply Voltage(Max)(+5V is 5, +/-5V is 10): 16; Total Supply Voltage(Min)(+5V is 5, +/-5V is 10): 4.6; Vio (25C)(Max)(mV): 0.2; DatasheetVersion: SLOS175B; PackageVersion: 4040047-3/M, 06/2011; PackageReference: D8; PackageDescription: 8-Pin Plastic Small Outline, Body 4.9 x 3.9 mm, Pitch 1.27 mm; Supplier 1: Digi-Key; Supplier Part Number 1: 296-7054-5-ND; Supplier 2: Newark; Supplier Part Number 2: 05W5170; Supplier 3: Mouser; Supplier Part Number 3: 595-TLC2201AMD; Eco-Plan: Green (RoHS & no Sb/Br); Mounting Technology: Surface Mount; Code_JEDEC: MS-012; ComponentLink1Description: Manufacturer URL; ComponentLink1URL: http://www.ti.com/; ComponentLink2Description: Datasheet; ComponentLink2URL: http://www.ti.com/lit/ds/symlink/tlc2201am.pdf; ComponentLink3Description: Package Specification; ComponentLink3URL: http://www.ti.com/litv/pdf/msoi002j
footprint TI-D8_N (SOIC, 8-Leads, Body 4.9x3.9mm, Pitch 1.27mm, IPC Medium Density)
footprint TI-D8_L (SOIC, 8-Leads, Body 4.9x3.9mm, Pitch 1.27mm, IPC High Density)
footprint TI-D8_M (SOIC, 8-Leads, Body 4.9x3.9mm, Pitch 1.27mm, IPC Low Density)
part A pins: 2 IN- (in), 3 IN+ (in), 4 VDD-/GND (power), 6 OUT (out), 7 VDD+ (power)
part B pins: 1 NC, 5 NC, 8 NC

## TLC2201AMDG4
designator U?
Low Noise Precision Advanced LinCMOS(TM) Single Operational Amplifier, 4.6 to 16 V, -55 to 125 degC, 8-pin SOIC (D8), Green (RoHS & no Sb/Br); Manufacturer: Texas Instruments; PartNumber: TLC2201AMDG4; CMRR(Min)(dB): 90; GBW(Typ)(MHz): 1.9; IIB(Max)(pA): 60; Iq per channel(Max)(mA): 1.5; Number of Channels: 1; Offset Drift(Typ)(uV/C): 0.5; Packing: SMALL T&R; Rating: Military; Slew Rate(Typ)(V/us): 2.7; Sub Family: Low Offset Voltage Amplifier (<=60uV), Precision Amplifier; Total Supply Voltage(Max)(+5V is 5, +/-5V is 10): 16; Total Supply Voltage(Min)(+5V is 5, +/-5V is 10): 4.6; Vio (25C)(Max)(mV): 0.2; DatasheetVersion: SLOS175B; PackageVersion: 4040047-3/M, 06/2011; PackageReference: D8; PackageDescription: 8-Pin Plastic Small Outline, Body 4.9 x 3.9 mm, Pitch 1.27 mm; Supplier 1: Digi-Key; Supplier Part Number 1: TLC2201AMDG4-ND; Supplier 2: Newark; Supplier Part Number 2: 50M8945; Supplier 3: Mouser; Supplier Part Number 3: 595-TLC2201AMDG4; Eco-Plan: Green (RoHS & no Sb/Br); Mounting Technology: Surface Mount; Code_JEDEC: MS-012; ComponentLink1Description: Manufacturer URL; ComponentLink1URL: http://www.ti.com/; ComponentLink2Description: Datasheet; ComponentLink2URL: http://www.ti.com/lit/ds/symlink/tlc2201am.pdf; ComponentLink3Description: Package Specification; ComponentLink3URL: http://www.ti.com/litv/pdf/msoi002j
footprint TI-D8_N (SOIC, 8-Leads, Body 4.9x3.9mm, Pitch 1.27mm, IPC Medium Density)
footprint TI-D8_L (SOIC, 8-Leads, Body 4.9x3.9mm, Pitch 1.27mm, IPC High Density)
footprint TI-D8_M (SOIC, 8-Leads, Body 4.9x3.9mm, Pitch 1.27mm, IPC Low Density)
part A pins: 2 IN- (in), 3 IN+ (in), 4 VDD-/GND (power), 6 OUT (out), 7 VDD+ (power)
part B pins: 1 NC, 5 NC, 8 NC

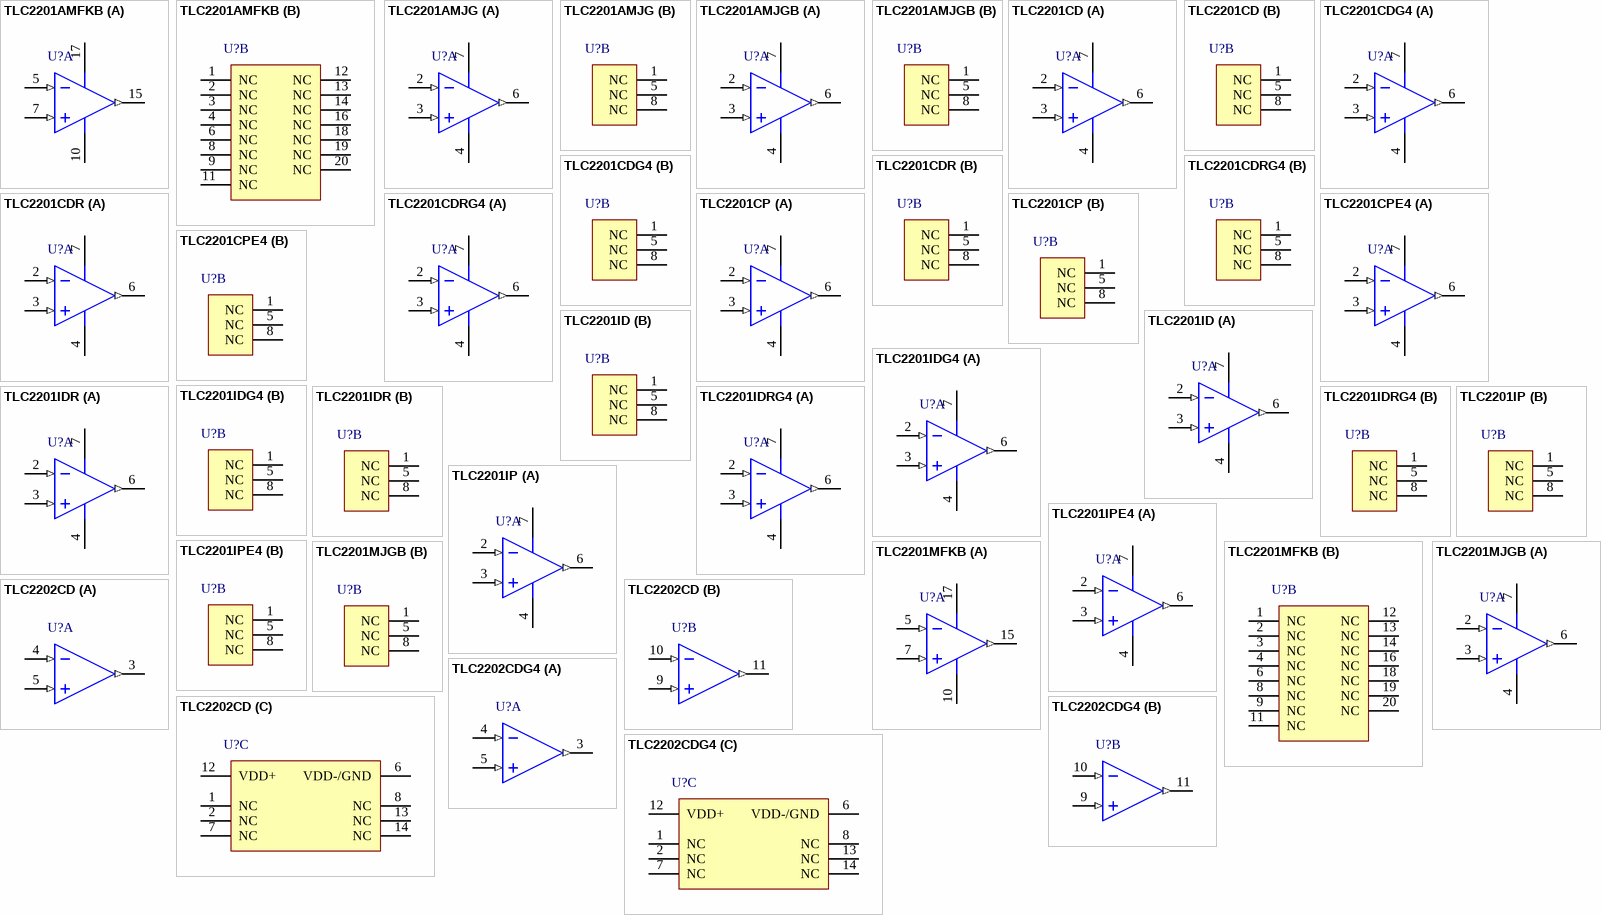
[diagram p47: symbols TLC2201AMFKB to TLC2202CDG4]

## TLC2201AMFKB
designator U?
Low Noise Precision Advanced LinCMOS(TM) Single Operational Amplifier, 4.6 to 16 V, -55 to 125 degC, 20-pin LCC (FK20); Manufacturer: Texas Instruments; PartNumber: TLC2201AMFKB; CMRR(Min)(dB): 90; GBW(Typ)(MHz): 1.9; IIB(Max)(pA): 60; Iq per channel(Max)(mA): 1.5; Number of Channels: 1; Offset Drift(Typ)(uV/C): 0.5; Packing: TUBE; Rating: Military; Slew Rate(Typ)(V/us): 2.7; Sub Family: Low Offset Voltage Amplifier (<=60uV), Precision Amplifier; Total Supply Voltage(Max)(+5V is 5, +/-5V is 10): 16; Total Supply Voltage(Min)(+5V is 5, +/-5V is 10): 4.6; Vio (25C)(Max)(mV): 0.2; DatasheetVersion: SLOS175B; PackageVersion: 4040140/D, 01/2011; PackageReference: FK20; PackageDescription: 20-Pin Ceramic, Metal Chip Carrier, Body 8.89 x 8.89 mm, Pitch 1.27 mm; Mounting Technology: Surface Mount; Code_JEDEC: MS-004; ComponentLink1Description: Manufacturer URL; ComponentLink1URL: http://www.ti.com/; ComponentLink2Description: Datasheet; ComponentLink2URL: http://www.ti.com/lit/ds/symlink/tlc2201am.pdf; ComponentLink3Description: Package Specification; ComponentLink3URL: http://www.ti.com/litv/pdf/mlcc006d
footprint TI-FK20_N (Leadless Chip Carrier, 20-Leads, Body 8.9x8.9mm, Pitch 1.27mm, IPC Medium Density)
footprint TI-FK20_L (Leadless Chip Carrier, 20-Leads, Body 8.9x8.9mm, Pitch 1.27mm, IPC High Density)
footprint TI-FK20_M (Leadless Chip Carrier, 20-Leads, Body 8.9x8.9mm, Pitch 1.27mm, IPC Low Density)
part A pins: 5 IN- (in), 7 IN+ (in), 10 VDD-/GND (power), 15 OUT (out), 17 VDD+ (power)
part B pins: 1 NC, 2 NC, 3 NC, 4 NC, 6 NC, 8 NC, 9 NC, 11 NC, 12 NC, 13 NC, 14 NC, 16 NC, 18 NC, 19 NC, 20 NC

## TLC2201AMJG
designator U?
Low Noise Precision Advanced LinCMOS(TM) Single Operational Amplifier, 4.6 to 16 V, -55 to 125 degC, 8-pin DIP (JG8); Manufacturer: Texas Instruments; PartNumber: TLC2201AMJG; CMRR(Min)(dB): 90; GBW(Typ)(MHz): 1.9; IIB(Max)(pA): 60; Iq per channel(Max)(mA): 1.5; Number of Channels: 1; Offset Drift(Typ)(uV/C): 0.5; Packing: TUBE; Rating: Military; Slew Rate(Typ)(V/us): 2.7; Sub Family: Low Offset Voltage Amplifier (<=60uV), Precision Amplifier; Total Supply Voltage(Max)(+5V is 5, +/-5V is 10): 16; Total Supply Voltage(Min)(+5V is 5, +/-5V is 10): 4.6; Vio (25C)(Max)(mV): 0.2; DatasheetVersion: SLOS175B; PackageVersion: 4040107/C, 08/1996; PackageReference: JG8; PackageDescription: 8-Pin Ceramic, Glass In-Line, Body 9.58 x 6.665 mm, Pitch 2.54 mm; Mounting Technology: Through Hole; ComponentLink1Description: Manufacturer URL; ComponentLink1URL: http://www.ti.com/; ComponentLink2Description: Datasheet; ComponentLink2URL: http://www.ti.com/lit/ds/symlink/tlc2201am.pdf; ComponentLink3Description: Package Specification; ComponentLink3URL: http://www.ti.com/litv/pdf/mcer001a
footprint TI-JG8 (DIP, 8-Leads, Body 10.15x7.1mm, Pitch 2.54mm)
part A pins: 2 IN- (in), 3 IN+ (in), 4 VDD-/GND (power), 6 OUT (out), 7 VDD+ (power)
part B pins: 1 NC, 5 NC, 8 NC

## TLC2201AMJGB
designator U?
Low Noise Precision Advanced LinCMOS(TM) Single Operational Amplifier, 4.6 to 16 V, -55 to 125 degC, 8-pin DIP (JG8); Manufacturer: Texas Instruments; PartNumber: TLC2201AMJGB; CMRR(Min)(dB): 90; GBW(Typ)(MHz): 1.9; IIB(Max)(pA): 60; Iq per channel(Max)(mA): 1.5; Number of Channels: 1; Offset Drift(Typ)(uV/C): 0.5; Packing: TUBE; Rating: Military; Slew Rate(Typ)(V/us): 2.7; Sub Family: Low Offset Voltage Amplifier (<=60uV), Precision Amplifier; Total Supply Voltage(Max)(+5V is 5, +/-5V is 10): 16; Total Supply Voltage(Min)(+5V is 5, +/-5V is 10): 4.6; Vio (25C)(Max)(mV): 0.2; DatasheetVersion: SLOS175B; PackageVersion: 4040107/C, 08/1996; PackageReference: JG8; PackageDescription: 8-Pin Ceramic, Glass In-Line, Body 9.58 x 6.665 mm, Pitch 2.54 mm; Mounting Technology: Through Hole; ComponentLink1Description: Manufacturer URL; ComponentLink1URL: http://www.ti.com/; ComponentLink2Description: Datasheet; ComponentLink2URL: http://www.ti.com/lit/ds/symlink/tlc2201am.pdf; ComponentLink3Description: Package Specification; ComponentLink3URL: http://www.ti.com/litv/pdf/mcer001a
footprint TI-JG8 (DIP, 8-Leads, Body 10.15x7.1mm, Pitch 2.54mm)
part A pins: 2 IN- (in), 3 IN+ (in), 4 VDD-/GND (power), 6 OUT (out), 7 VDD+ (power)
part B pins: 1 NC, 5 NC, 8 NC

## TLC2201CD
designator U?
Low Noise Precision Rail-to-Rail Output Operational Amplifier, 4.6 to 16 V, 0 to 70 degC, 8-pin SOIC (D8), Green (RoHS & no Sb/Br); Manufacturer: Texas Instruments; PartNumber: TLC2201CD; CMRR(Min)(dB): 85; GBW(Typ)(MHz): 1.9; IIB(Max)(pA): 60; Iq per channel(Max)(mA): 1.5; Number of Channels: 1; Offset Drift(Typ)(uV/C): 0.5; Packing: TUBE; Rating: Catalog; Slew Rate(Typ)(V/us): 2.7; Sub Family: Low Noise Amp (<=10nV/rtHz), Low Offset Voltage Amplifier (<=60uV), Precision Amplifier; Total Supply Voltage(Max)(+5V is 5, +/-5V is 10): 16; Total Supply Voltage(Min)(+5V is 5, +/-5V is 10): 4.6; DatasheetVersion: SLOS175B; PackageVersion: 4040047-3/M, 06/2011; PackageReference: D8; PackageDescription: 8-Pin Plastic Small Outline, Body 4.9 x 3.9 mm, Pitch 1.27 mm; Supplier 1: Digi-Key; Supplier Part Number 1: 296-2425-5-ND; Supplier 2: Newark; Supplier Part Number 2: 90B1433; Supplier 3: Mouser; Supplier Part Number 3: 595-TLC2201CD; Eco-Plan: Green (RoHS & no Sb/Br); Vio (25C)(Max)(mV): 0.5; Mounting Technology: Surface Mount; Code_JEDEC: MS-012; ComponentLink1Description: Manufacturer URL; ComponentLink1URL: http://www.ti.com/; ComponentLink2Description: Datasheet; ComponentLink2URL: http://www.ti.com/lit/ds/symlink/tlc2201.pdf; ComponentLink3Description: Package Specification; ComponentLink3URL: http://www.ti.com/litv/pdf/msoi002j
footprint TI-D8_N (SOIC, 8-Leads, Body 4.9x3.9mm, Pitch 1.27mm, IPC Medium Density)
footprint TI-D8_L (SOIC, 8-Leads, Body 4.9x3.9mm, Pitch 1.27mm, IPC High Density)
footprint TI-D8_M (SOIC, 8-Leads, Body 4.9x3.9mm, Pitch 1.27mm, IPC Low Density)
part A pins: 2 IN- (in), 3 IN+ (in), 4 VDD-/GND (power), 6 OUT (out), 7 VDD+ (power)
part B pins: 1 NC, 5 NC, 8 NC

## TLC2201CDG4
designator U?
Low Noise Precision Rail-to-Rail Output Operational Amplifier, 4.6 to 16 V, 0 to 70 degC, 8-pin SOIC (D8), Green (RoHS & no Sb/Br); Manufacturer: Texas Instruments; PartNumber: TLC2201CDG4; CMRR(Min)(dB): 85; GBW(Typ)(MHz): 1.9; IIB(Max)(pA): 60; Iq per channel(Max)(mA): 1.5; Number of Channels: 1; Offset Drift(Typ)(uV/C): 0.5; Packing: TUBE; Rating: Catalog; Slew Rate(Typ)(V/us): 2.7; Sub Family: Low Noise Amp (<=10nV/rtHz), Low Offset Voltage Amplifier (<=60uV), Precision Amplifier; Total Supply Voltage(Max)(+5V is 5, +/-5V is 10): 16; Total Supply Voltage(Min)(+5V is 5, +/-5V is 10): 4.6; DatasheetVersion: SLOS175B; PackageVersion: 4040047-3/M, 06/2011; PackageReference: D8; PackageDescription: 8-Pin Plastic Small Outline, Body 4.9 x 3.9 mm, Pitch 1.27 mm; Supplier 1: Digi-Key; Supplier Part Number 1: TLC2201CDG4-ND; Supplier 2: Farnell; Supplier Part Number 2: 1234695; Supplier 3: Newark; Supplier Part Number 3: 61K1756; Supplier 4: Mouser; Supplier Part Number 4: 595-TLC2201CDG4; Eco-Plan: Green (RoHS & no Sb/Br); Vio (25C)(Max)(mV): 0.5; Mounting Technology: Surface Mount; Code_JEDEC: MS-012; ComponentLink1Description: Manufacturer URL; ComponentLink1URL: http://www.ti.com/; ComponentLink2Description: Datasheet; ComponentLink2URL: http://www.ti.com/lit/ds/symlink/tlc2201.pdf; ComponentLink3Description: Package Specification; ComponentLink3URL: http://www.ti.com/litv/pdf/msoi002j
footprint TI-D8_N (SOIC, 8-Leads, Body 4.9x3.9mm, Pitch 1.27mm, IPC Medium Density)
footprint TI-D8_L (SOIC, 8-Leads, Body 4.9x3.9mm, Pitch 1.27mm, IPC High Density)
footprint TI-D8_M (SOIC, 8-Leads, Body 4.9x3.9mm, Pitch 1.27mm, IPC Low Density)
part A pins: 2 IN- (in), 3 IN+ (in), 4 VDD-/GND (power), 6 OUT (out), 7 VDD+ (power)
part B pins: 1 NC, 5 NC, 8 NC